# Altium schematic symbol library AC-5VDC Power Module.SchLib: 1 symbol
Pins are listed as number, name and electrical type; pins without a type are passive.

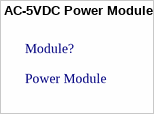
[diagram p0: symbol AC-5VDC Power Module]

## AC-5VDC Power Module
designator Module?, comment Power Module
85-240VAC to 5VDC 700mA 5W
footprint AC-DC Power Module (85-240VAC to 5VDC 700mA 5W)